# Altium footprint library PcbLib1.PcbLib: 9 footprints
Each footprint in its own frame and in the unit in brackets; x right, y up, seen from the top. Pads: shape width x height; smd on the part's side, far side on the other; paste and mask are expansions set on the pad; w line width, h text height; cw(c..) or ccw(c..) is an arc to the next point about the centre after c.
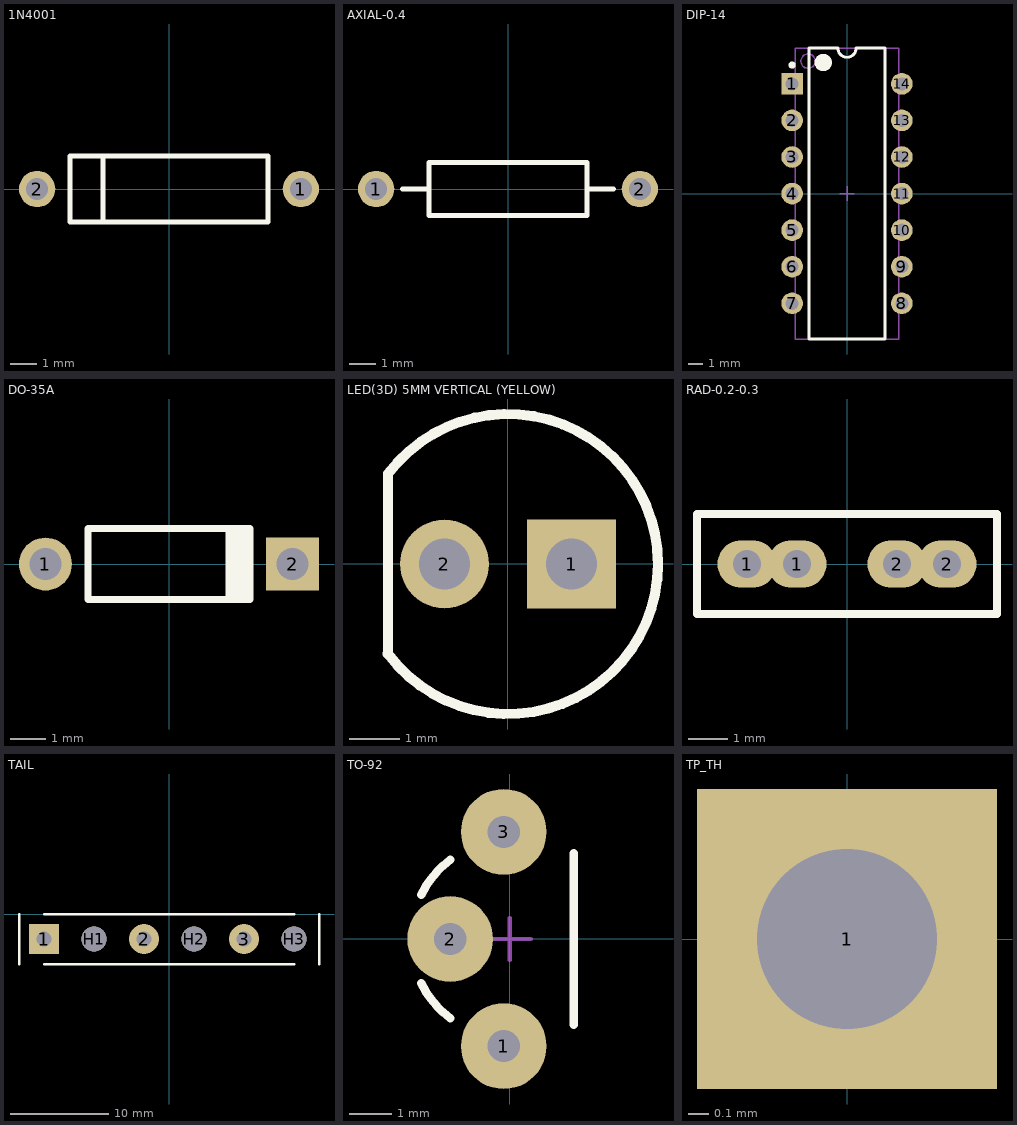
[diagram p0: the footprints below, top view; thin cyan lines are the x and y axes]

## 1N4001 [mm] "Axial Device, Thru-Hole; 2 Leads; 0.5 in Pin Spacing"
height 2.54
pads (2):
  round 1.4 hole 0.85: 1(5.08,0) 2(-5.08,0)
Top Overlay:
  lines w0.2: -2.54,-1.27 -2.54,1.27 ; -3.81,-1.27 3.81,-1.27 3.81,1.27 -3.81,1.27 -3.81,-1.27
3D body: height 2.28, standoff -2.73, extent -5.355,-1.01 5.355,1.01

## AXIAL-0.4 [mm] "Axial Device, Thru-Hole; 2 Leads; 0.4 in Pin Spacing"
height 2.032
pads (2):
  round 1.4 hole 0.85: 1(-5.08,0) 2(5.08,0)
Top Overlay:
  lines w0.2: -4.064,0 -3.048,0 ; 3.048,0 4.064,0 ; -3.048,-1.016 3.048,-1.016 3.048,1.016 -3.048,1.016 -3.048,-1.016
3D body: height 2.54, standoff -2.93, extent -5.385,-1.27 5.385,1.041

## DIP-14 [mm] "DIP; 14 Leads; Row Spacing 7.62 mm; Pitch 2.54 mm"
height 5.08
pads (14):
  rect 1.5x1.5 hole 0.9: 1(-3.81,7.62)
  round 1.5 hole 0.9: 2(-3.81,5.08) 3(-3.81,2.54) 4(-3.81,0) 5(-3.81,-2.54) 6(-3.81,-5.08) 7(-3.81,-7.62) 8(3.81,-7.62) 9(3.81,-5.08) 10(3.81,-2.54) 11(3.81,0) 12(3.81,2.54) 13(3.81,5.08) 14(3.81,7.62)
Top Overlay:
  circle w0.6: c-1.65,9.1 r0.3
  circle w0.25: c-3.81,8.92 r0.125
  lines w0.2: -2.65,-10.1 2.65,-10.1 2.65,10.1 0.635,10.1 cw(c0,10.1) -0.635,10.1 -2.65,10.1 -2.65,-10.1
Mechanical 13:
  circle w0.1: c-2.7,9.2 r0.5
  lines w0.1: -3.6,-10.1 3.6,-10.1 3.6,10.1 -3.6,10.1 -3.6,-10.1
Mechanical 15:
  lines w0.1: -0.5,0 0.5,0 ; 0,-0.5 0,0.5
3D body: height 5.08, standoff -2.49, extent -3.935,-9.75 3.935,9.75

## DO-35A [mm] "Diode, Axial; Body 4.6 x 1.9 mm (LxDia. max), Lead Dia. 0.53 mm (max)"
height 2
pads (2):
  round 1.5 hole 0.9: 1(-3.5,0)
  rect 1.5x1.5 hole 0.9: 2(3.5,0)
Top Overlay:
  rectangle: 1.6,-1 2.4,1
  lines w0.2: 2.3,-1 -2.3,-1 -2.3,1 2.3,1
3D body: height 2, standoff -4.5, extent -3.75,-1 3.75,1

## LED(3D) 5MM VERTICAL (YELLOW) [mil]
pads (2):
  rect 70x70 hole 40: 1(50.06,-0.28)
  round 70 hole 40: 2(-49.94,-0.28)
Top Overlay:
  lines w8: -94.58,-70.95 ccw(c0.06,-0.28) -94.32,70.73 -94.32,-70.95
3D body: height 484.75, standoff -97.93, extent -96.02,-118.78 117.37,118.21

## RAD-0.2-0.3 [mm] "Radial Cap, Thru-Hole; 2 Leads; 0.2 in Pin Spacing"
height 2
pads (4):
  oval 1.5x1.2 hole 0.7: 1(-2.54,0) 1(-1.27,0) 2(1.27,0) 2(2.54,0)
Top Overlay:
  lines w0.2: -3.81,-1.27 -3.81,1.27 3.81,1.27 3.81,-1.27 -3.81,-1.27
3D body: height 5.5, standoff -3.33, extent -2.75,-1.25 2.75,1.25

## TAIL [mil] "Connector; Header; 3 Position"
pads (6):
  rect 120x120 hole 60: 1(-500,-100)
  round 120 hole 60: 2(-100,-100) 3(300,-100)
  round 100 hole 100: H1(-300,-100) H2(100,-100) H3(500,-100)
Top Overlay:
  lines w10: -600,-200 -600,0 ; -500,-200 500,-200 ; -500,0 500,0 ; 600,-200 600,0

## TO-92 [mil] "TO, Flat Index; 3 In-Line, Axial Leads; Body Dia. 4.6mm; Leads 0.41 x 0.39 mm (max)"
height 185.04
pads (3):
  round 80 hole 30: 1(-5.52,-100.01) 2(-55.52,-0.01) 3(-5.52,99.99)
Top Overlay:
  lines w7.87: -82.65,-41.33 ccw(c0,0) -55.44,-73.92 ; -82.65,41.33 cw(c0,0) -55.44,73.92 ; 60,-80 60,80
Mechanical 15:
  lines w3.94: -19.68,0 19.68,0 ; 0,-19.68 0,19.69
3D body: height 288.98, standoff -27.56, extent -100,-111.81 49.6,111.82

## TP_TH [mm]
pads (1):
  rect 1.5x1.5 hole 0.9: 1(0,0)